# EAGLE library part 20PIN (library ATX)
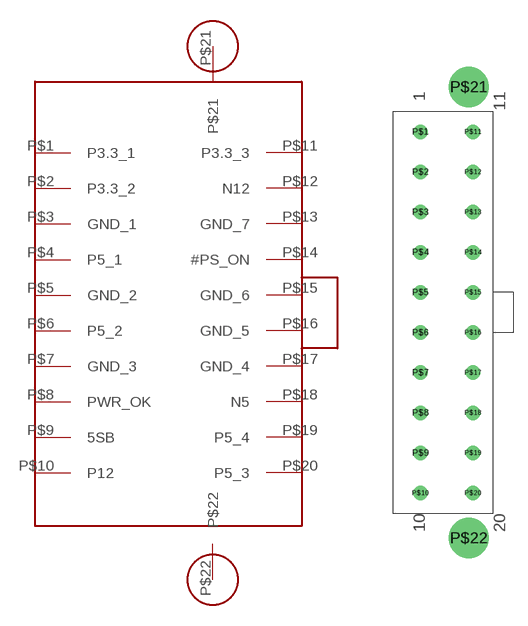
[diagram p0: symbol with the pads of 20PIN; footprint 20PIN]

Designator prefix -

## 20PIN  [20PIN]
P$1  P3.3_1
P$2  P3.3_2
P$3  GND_1
P$4  P5_1
P$5  GND_2
P$6  P5_2
P$7  GND_3
P$8  PWR_OK
P$9  5SB
P$10  P12
P$11  P3.3_3
P$12  N12
P$13  GND_7
P$14  #PS_ON
P$15  GND_6
P$16  GND_5
P$17  GND_4
P$18  N5
P$19  P5_4
P$20  P5_3
P$21  P$21
P$22  P$22

## Footprint 20PIN (pad centres in mm)
drill 1 round: P$1 -5.5,16.8; P$2 -5.5,12.6; P$3 -5.5,8.4; P$4 -5.5,4.2; P$5 -5.5,0; P$6 -5.5,-4.2; P$7 -5.5,-8.4; P$8 -5.5,-12.6; P$9 -5.5,-16.8; P$10 -5.5,-21; P$11 0,16.8; P$12 0,12.6; P$13 0,8.4; P$14 0,4.2; P$15 0,0; P$16 0,-4.2; P$17 0,-8.4; P$18 0,-12.6; P$19 0,-16.8; P$20 0,-21
drill 3.2 round: P$21 -0.46,21.5; P$22 -0.46,-25.7